# EAGLE library part IS31FL3196 (library issi)
LED Driver IC 6 Output Linear I²C Dimming 40mA
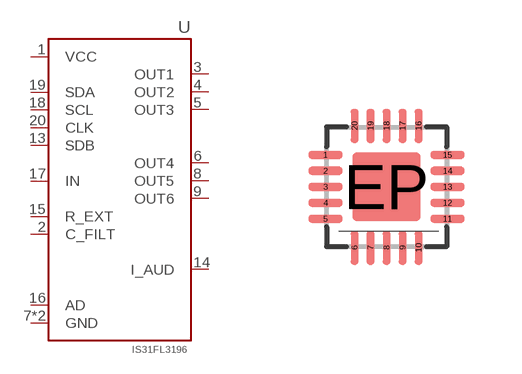
[diagram p0: symbol with the pads of QFN20-3X3_EP; footprint QFN20-3X3_EP]

Designator prefix U

## IS31FL3196 (DIGIKEY: 706-1433-1-ND; MFR: ISSI; MPN: IS31FL3196-QFLS2-TR; P1I: o)  [QFN20-3X3_EP]
1  VCC
2  C_FILT
3  OUT1
4  OUT2
5  OUT3
6  OUT4
7  GND
8  OUT5
9  OUT6
13  SDB
14  I_AUD
15  R_EXT
16  AD
17  IN
18  SCL
19  SDA
20  CLK
EP  GND

## Footprint QFN20-3X3_EP (pad centres in mm)
smd 0.85 x 0.2: 1 -1.525,0.8; 2 -1.525,0.4; 3 -1.525,0; 4 -1.525,-0.4; 5 -1.525,-0.8; 11 1.525,-0.8; 12 1.525,-0.4; 13 1.525,0; 14 1.525,0.4; 15 1.525,0.8
smd 0.2 x 0.85: 6 -0.8,-1.525; 7 -0.4,-1.525; 8 0,-1.525; 9 0.4,-1.525; 10 0.8,-1.525; 16 0.8,1.525; 17 0.4,1.525; 18 0,1.525; 19 -0.4,1.525; 20 -0.8,1.525
smd 1.7 x 1.7: EP 0,0